# Altium integrated library TI Digital Signal Processor 32-Bit.IntLib: 121 symbols (part 13 of 13)
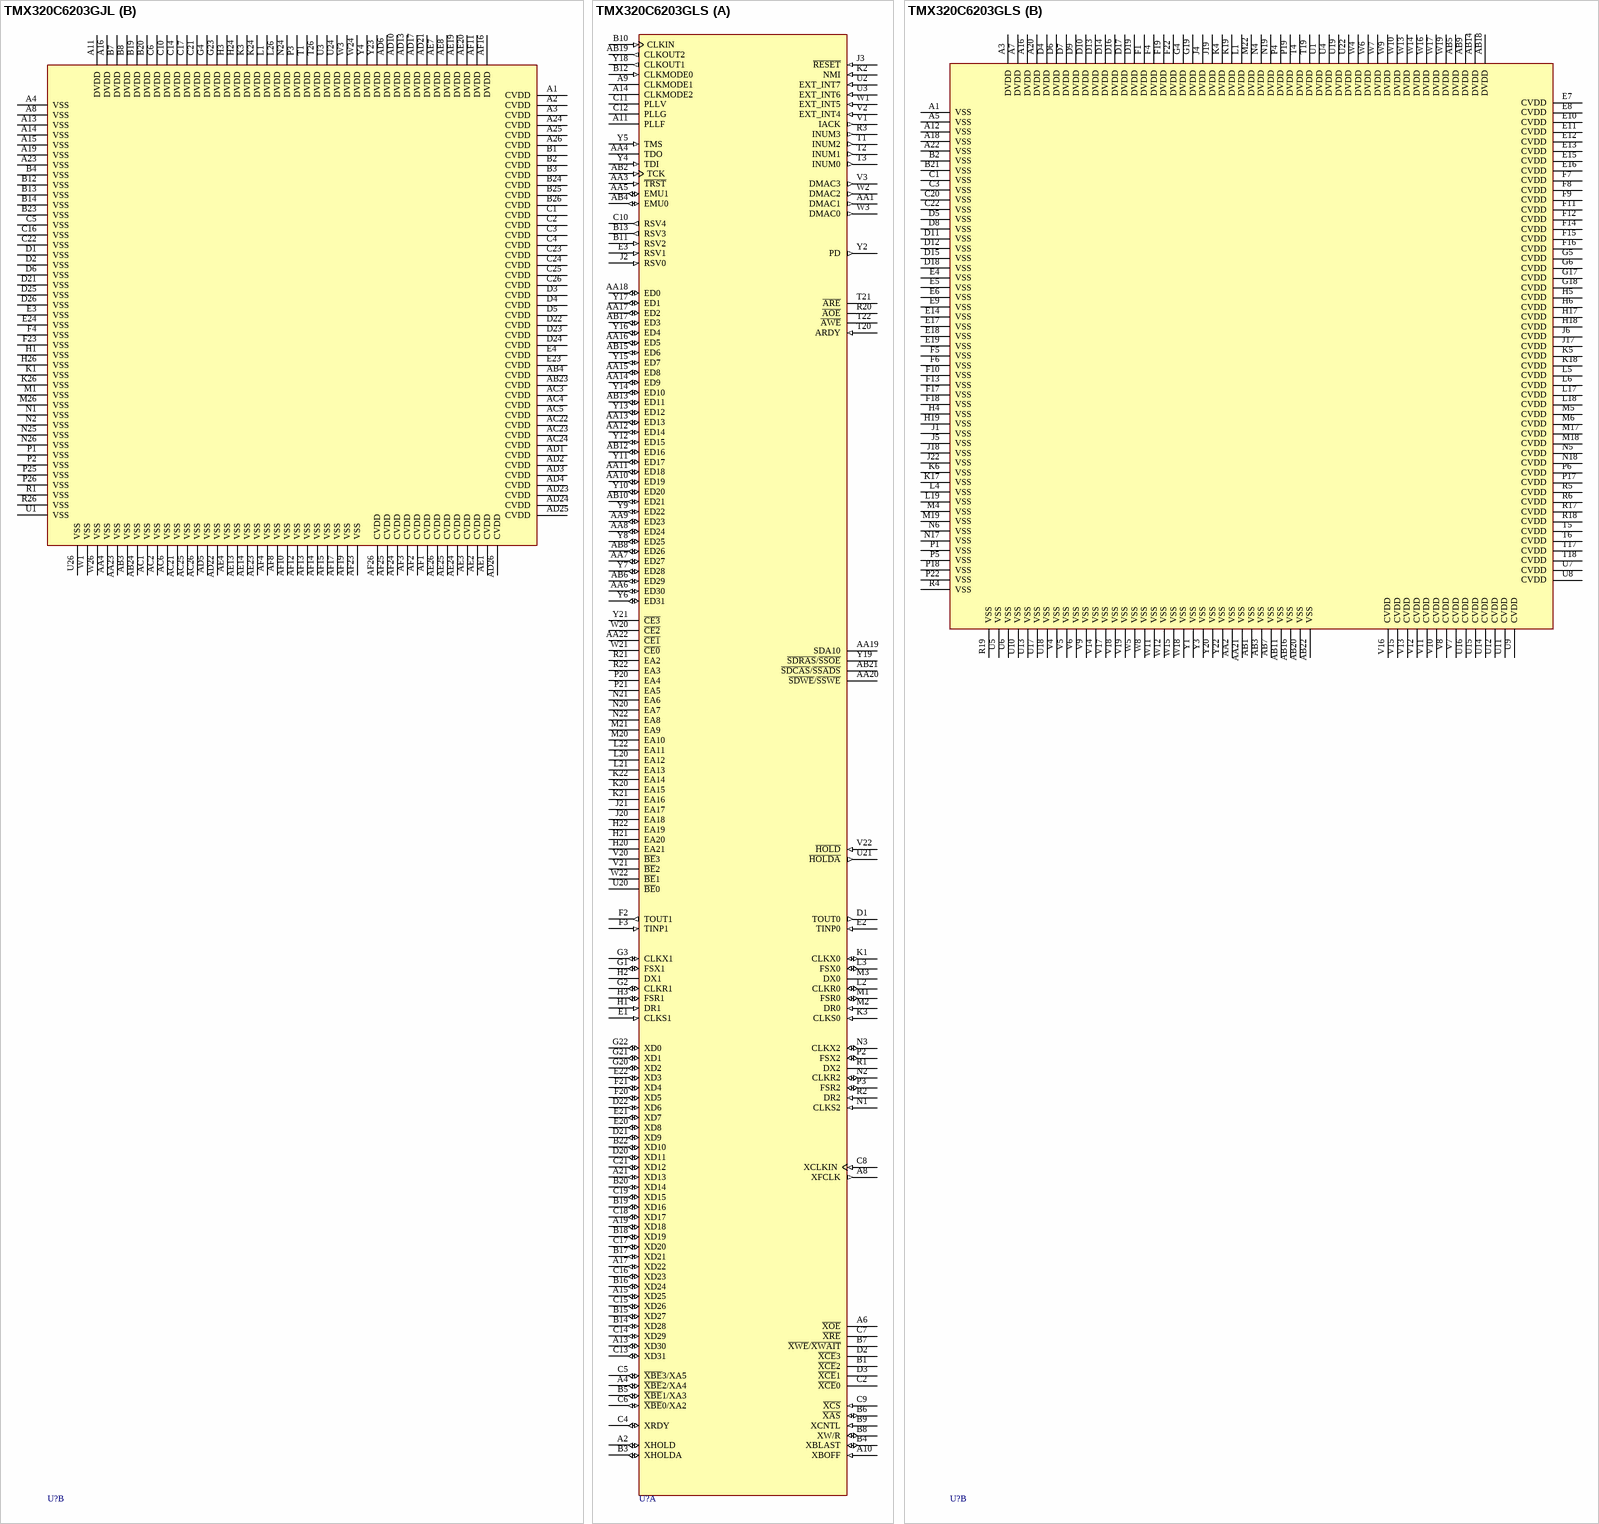
[diagram p142: symbols TMX320C6203GJL to TMX320C6203GLS]

## TMX320C6203GLS
designator U?
Fixed-Point, 1.5/3.3V, 2400 MIPS, Multichannel/Multifunction DSP; Note: PLLV, PLLG and PLLF are not part of external voltage supply or ground.; Published: 25-Jan-2001; LatestRevisionDate: 13-Apr-2006; LatestRevisionNote: IPC-7351 Footprint Added.; DatasheetVersion: Mar-2000; PackageVersion: Apr-2000; PackageReference: GLS384; Publisher: Altium Limited; PackageDescription: 384-Ball Ball Grid Array 0.8 mm Pitch; ComponentLink1Description: Manufacturer Link; ComponentLink1URL: http://www.ti.com/
footprint GLS384 (BGA, 384-Leads, Body 18x18mm, Pitch 0.8mm)
3D model TMX320C6203-GLS384 (384-Ball Ball Grid Array 0.8 mm Pitch)
part A pins: A2 XHOLD (io), A4 ~{XBE}2/XA4 (io), A6 ~{XOE} (hiz), A8 XFCLK (out), A9 CLKMODE1, A10 XBOFF (in), A11 PLLF, A13 XD30 (io), A14 CLKMODE2, A15 XD25 (io), A17 XD22 (io), A19 XD18 (io), A21 XD13 (io), AA1 DMAC1 (out), AA3 ~{TRST} (in), AA4 TDO (hiz), AA5 EMU1 (io), AA6 ED30 (io), AA7 ED27 (io), AA8 ED24 (io), AA9 ED23 (io), AA10 ED19 (io), AA11 ED18 (io), AA12 ED14 (io), AA13 ED13 (io), AA14 ED9 (io), AA15 ED8 (io), AA16 ED5 (io), AA17 ED2 (io), AA18 ED0 (io), AA19 SDA10 (hiz), AA20 ~{SDWE}/~{SSWE} (hiz), AA22 ~{CE1} (hiz), AB2 TCK (in), AB4 EMU0 (io), AB6 ED29 (io), AB8 ED26 (io), AB10 ED21 (io), AB12 ED16 (io), AB13 ED11 (io), AB15 ED6 (io), AB17 ED3 (io), AB19 CLKOUT2 (out), AB21 ~{SDCAS}/~{SSADS} (hiz), B1 ~{XCE}2 (hiz), B3 XHOLDA (io), B4 XBLAST (io), B5 ~{XBE}1/XA3 (io), B6 ~{XAS} (io), B7 ~{XWE}/~{XWAIT} (hiz), B8 XW/R (io), B9 XCNTL (in), B10 CLKIN (in), B11 RSV2 (in), B12 CLKMODE0 (in), B13 RSV3 (out), B14 XD28 (io), B15 XD27 (io), B16 XD24 (io), B17 XD21 (io), B18 XD19 (io), B19 XD16 (io), B20 XD14 (io), B22 XD10 (io), C2 ~{XCE}0 (hiz), C4 XRDY (io), C5 ~{XBE}3/XA5 (io), C6 ~{XBE}0/XA2 (io), C7 ~{XRE} (hiz), C8 XCLKIN (in), C9 ~{XCS} (in), C10 RSV4 (out), C11 PLLV (power), C12 PLLG (power), C13 XD31 (io), C14 XD29 (io), C15 XD26 (io), C16 XD23 (io), C17 XD20 (io), C18 XD17 (io), C19 XD15 (io), C21 XD12 (io), D1 TOUT0 (out), D2 ~{XCE}3 (hiz), D3 ~{XCE}1 (hiz), D20 XD11 (io), D21 XD9 (io), D22 XD6 (io), E1 CLKS1 (in), E2 TINP0 (in), E3 RSV1 (in), E20 XD8 (io), E21 XD7 (io), E22 XD3 (io), F2 TOUT1 (out), F3 TINP1 (in), F20 XD5 (io), F21 XD4 (io), G1 FSX1 (io), G2 CLKR1 (io), G3 CLKX1 (io), G20 XD2 (io), G21 XD1 (io), G22 XD0 (io), H1 DR1 (in), H2 DX1 (hiz), H3 FSR1 (io), H20 EA21 (hiz), H21 EA20 (hiz), H22 EA19 (hiz), J2 RSV0 (in), J3 ~{RESET} (in), J20 EA18 (hiz), J21 EA17 (hiz), K1 CLKX0 (io), K2 NMI (in), K3 CLKS0 (in), K20 EA15 (hiz), K21 EA16 (hiz), K22 EA14 (hiz), L2 CLKR0 (io), L3 FSX0 (io), L20 EA12 (hiz), L21 EA13 (hiz), L22 EA11 (hiz), M1 FSR0 (io), M2 DR0 (in), M3 DX0 (hiz), M20 EA10 (hiz), M21 EA9 (hiz), N1 CLKS2 (in), N2 CLKR2 (io), N3 CLKX2 (io), N20 EA7 (hiz), N21 EA6 (hiz), N22 EA8 (hiz), P2 FSX2 (io), P3 FSR2 (io), P20 EA4 (hiz), P21 EA5 (hiz), R1 DX2 (hiz), R2 DR2 (in), R3 INUM3 (out), R20 ~{AOE} (hiz), R21 EA2 (hiz), R22 EA3 (hiz), T1 INUM2 (out), T2 INUM1 (out), T3 INUM0 (out), T20 ARDY (in), T21 ~{ARE} (hiz), T22 ~{AWE} (hiz), U2 EXT_INT7 (in), U3 EXT_INT6 (in), U20 ~{BE}0 (hiz), U21 ~{HOLDA} (out), V1 IACK (out), V2 EXT_INT4 (in), V3 DMAC3 (out), V20 ~{BE}3 (hiz), V21 ~{BE}2 (hiz), V22 ~{HOLD} (in), W1 EXT_INT5 (in), W2 DMAC2 (out), W3 DMAC0 (out), W20 ~{CE2} (hiz), W21 ~{CE0} (hiz), W22 ~{BE}1 (hiz), Y2 PD (out), Y4 TDI (in), Y5 TMS (in), Y6 ED31 (io), Y7 ED28 (io), Y8 ED25 (io), Y9 ED22 (io), Y10 ED20 (io), Y11 ED17 (io), Y12 ED15 (io), Y13 ED12 (io), Y14 ED10 (io), Y15 ED7 (io), Y16 ED4 (io), Y17 ED1 (io), Y18 CLKOUT1 (out), Y19 ~{SDRAS}/~{SSOE} (hiz), Y21 ~{CE3} (hiz)
part B pins: A1 VSS (power), A3 DVDD (power), A5 VSS (power), A7 DVDD (power), A12 VSS (power), A16 DVDD (power), A18 VSS (power), A20 DVDD (power), A22 VSS (power), AA2 VSS (power), AA21 VSS (power), AB1 VSS (power), AB3 VSS (power), AB5 DVDD (power), AB7 VSS (power), AB9 DVDD (power), AB11 VSS (power), AB14 DVDD (power), AB16 VSS (power), AB18 DVDD (power), AB20 VSS (power), AB22 VSS (power), B2 VSS (power), B21 VSS (power), C1 VSS (power), C3 VSS (power), C20 VSS (power), C22 VSS (power), D4 DVDD (power), D5 VSS (power), D6 DVDD (power), D7 DVDD (power), D8 VSS (power), D9 DVDD (power), D10 DVDD (power), D11 VSS (power), D12 VSS (power), D13 DVDD (power), D14 DVDD (power), D15 VSS (power), D16 DVDD (power), D17 DVDD (power), D18 VSS (power), D19 DVDD (power), E4 VSS (power), E5 VSS (power), E6 VSS (power), E7 CVDD (power), E8 CVDD (power), E9 VSS (power), E10 CVDD (power), E11 CVDD (power), E12 CVDD (power), E13 CVDD (power), E14 VSS (power), E15 CVDD (power), E16 CVDD (power), E17 VSS (power), E18 VSS (power), E19 VSS (power), F1 DVDD (power), F4 DVDD (power), F5 VSS (power), F6 VSS (power), F7 CVDD (power), F8 CVDD (power), F9 CVDD (power), F10 VSS (power), F11 CVDD (power), F12 CVDD (power), F13 VSS (power), F14 CVDD (power), F15 CVDD (power), F16 CVDD (power), F17 VSS (power), F18 VSS (power), F19 DVDD (power), F22 DVDD (power), G4 DVDD (power), G5 CVDD (power), G6 CVDD (power), G17 CVDD (power), G18 CVDD (power), G19 DVDD (power), H4 VSS (power), H5 CVDD (power), H6 CVDD (power), H17 CVDD (power), H18 CVDD (power), H19 VSS (power), J1 VSS (power), J4 DVDD (power), J5 VSS (power), J6 CVDD (power), J17 CVDD (power), J18 VSS (power), J19 DVDD (power), J22 VSS (power), K4 DVDD (power), K5 CVDD (power), K6 VSS (power), K17 VSS (power), K18 CVDD (power), K19 DVDD (power), L1 DVDD (power), L4 VSS (power), L5 CVDD (power), L6 CVDD (power), L17 CVDD (power), L18 CVDD (power), L19 VSS (power), M4 VSS (power), M5 CVDD (power), M6 CVDD (power), M17 CVDD (power), M18 CVDD (power), M19 VSS (power), M22 DVDD (power), N4 DVDD (power), N5 CVDD (power), N6 VSS (power), N17 VSS (power), N18 CVDD (power), N19 DVDD (power), P1 VSS (power), P4 DVDD (power), P5 VSS (power), P6 CVDD (power), P17 CVDD (power), P18 VSS (power), P19 DVDD (power), P22 VSS (power), R4 VSS (power), R5 CVDD (power), R6 CVDD (power), R17 CVDD (power), R18 CVDD (power), R19 VSS (power), T4 DVDD (power), T5 CVDD (power), T6 CVDD (power), T17 CVDD (power), T18 CVDD (power), T19 DVDD (power), U1 DVDD (power), U4 DVDD (power), U5 VSS (power), U6 VSS (power), U7 CVDD (power), U8 CVDD (power), U9 CVDD (power), U10 VSS (power), U11 CVDD (power), U12 CVDD (power), U13 VSS (power), U14 CVDD (power), U15 CVDD (power), U16 CVDD (power), U17 VSS (power), U18 VSS (power), U19 DVDD (power), U22 DVDD (power), V4 VSS (power), V5 VSS (power), V6 VSS (power), V7 CVDD (power), V8 CVDD (power), V9 VSS (power), V10 CVDD (power), V11 CVDD (power), V12 CVDD (power), V13 CVDD (power), V14 VSS (power), V15 CVDD (power), V16 CVDD (power), V17 VSS (power), V18 VSS (power), V19 VSS (power), W4 DVDD (power), W5 VSS (power), W6 DVDD (power), W7 DVDD (power), W8 VSS (power), W9 DVDD (power), W10 DVDD (power), W11 VSS (power), W12 VSS (power), W13 DVDD (power), W14 DVDD (power), W15 VSS (power), W16 DVDD (power), W17 DVDD (power), W18 VSS (power), W19 DVDD (power), Y1 VSS (power), Y3 VSS (power), Y20 VSS (power), Y22 VSS (power)

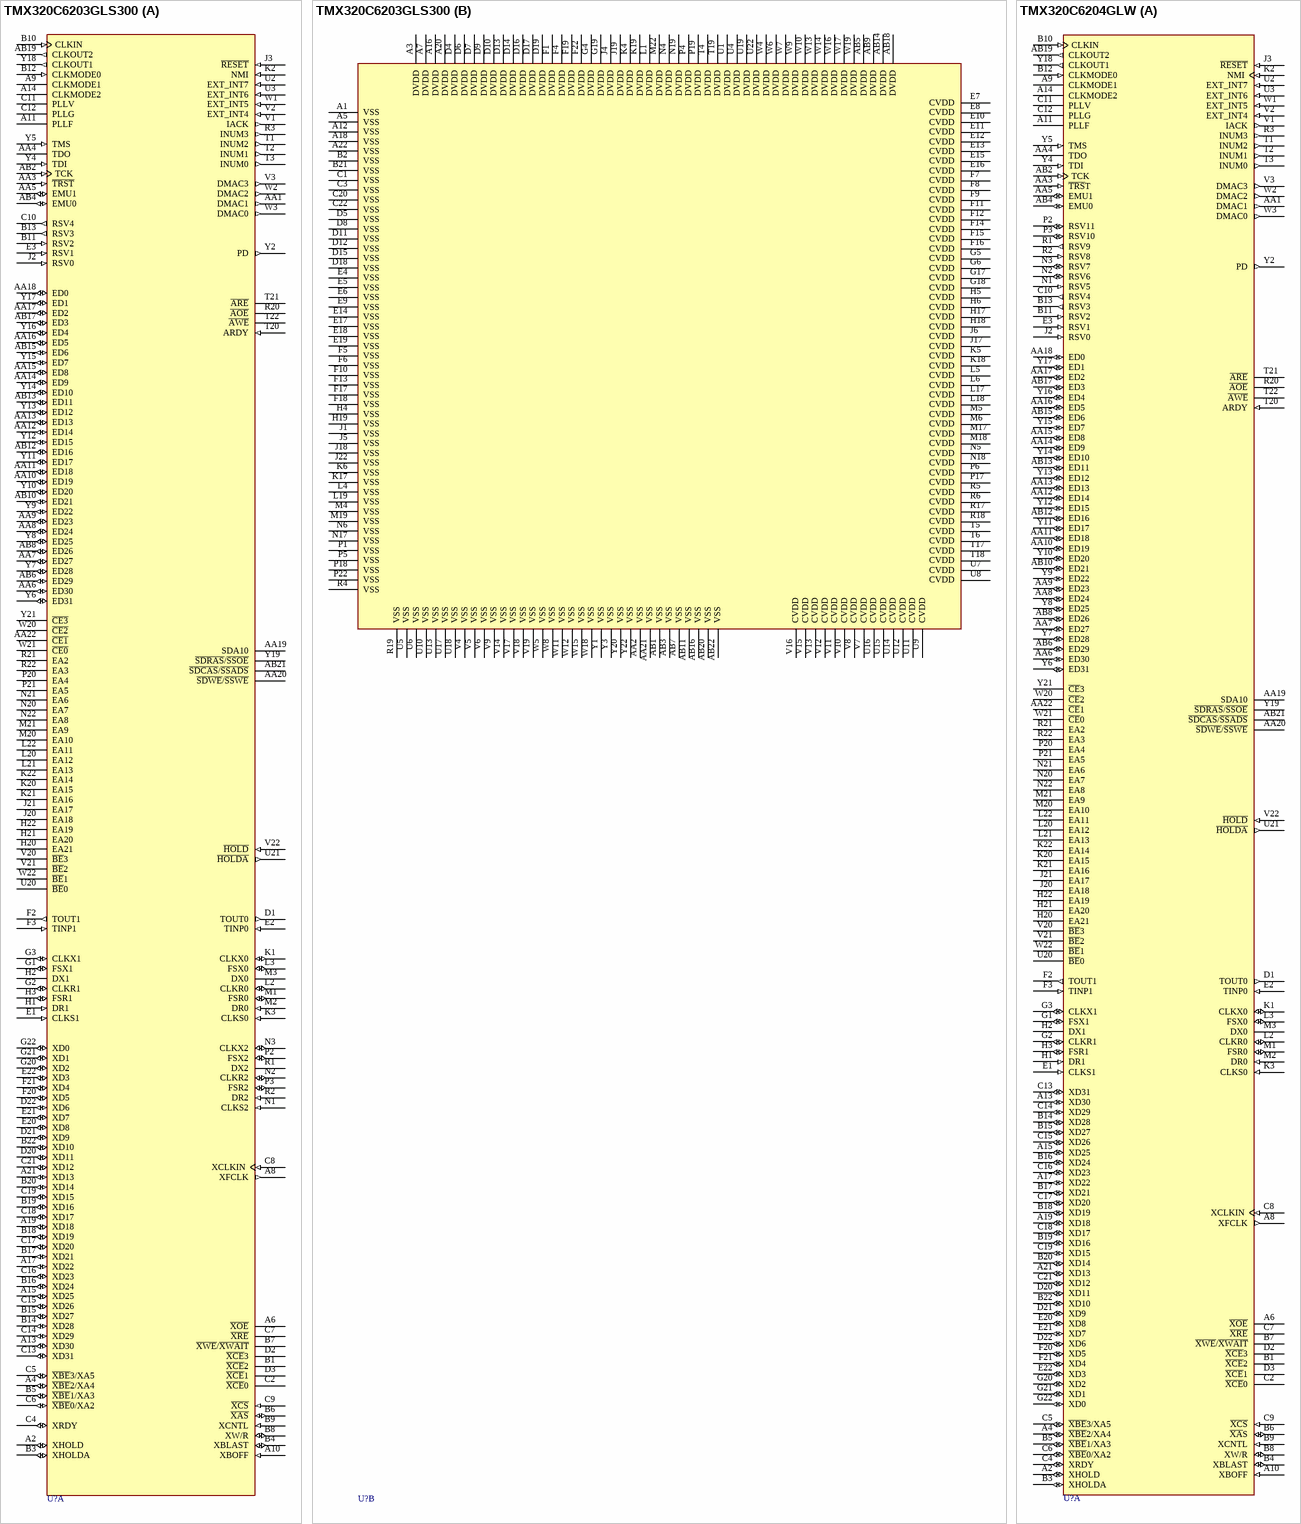
[diagram p127: symbols TMX320C6203GLS300 to TMX320C6204GLW]

## TMX320C6203GLS300
designator U?
Fixed-Point, 1.5/3.3V, 2400 MIPS, Multichannel/Multifunction DSP; Note: PLLV, PLLG and PLLF are not part of external voltage supply or ground.; Published: 25-Jan-2001; LatestRevisionDate: 13-Apr-2006; LatestRevisionNote: IPC-7351 Footprint Added.; DatasheetVersion: Mar-2000; PackageVersion: Apr-2000; PackageReference: GLS384; Publisher: Altium Limited; PackageDescription: 384-Ball Ball Grid Array 0.8 mm Pitch; ComponentLink1Description: Manufacturer Link; ComponentLink1URL: http://www.ti.com/
footprint GLS384 (BGA, 384-Leads, Body 18x18mm, Pitch 0.8mm)
3D model TMX320C6203-GLS384 (384-Ball Ball Grid Array 0.8 mm Pitch)
part A pins: A2 XHOLD (io), A4 ~{XBE}2/XA4 (io), A6 ~{XOE} (hiz), A8 XFCLK (out), A9 CLKMODE1, A10 XBOFF (in), A11 PLLF, A13 XD30 (io), A14 CLKMODE2, A15 XD25 (io), A17 XD22 (io), A19 XD18 (io), A21 XD13 (io), AA1 DMAC1 (out), AA3 ~{TRST} (in), AA4 TDO (hiz), AA5 EMU1 (io), AA6 ED30 (io), AA7 ED27 (io), AA8 ED24 (io), AA9 ED23 (io), AA10 ED19 (io), AA11 ED18 (io), AA12 ED14 (io), AA13 ED13 (io), AA14 ED9 (io), AA15 ED8 (io), AA16 ED5 (io), AA17 ED2 (io), AA18 ED0 (io), AA19 SDA10 (hiz), AA20 ~{SDWE}/~{SSWE} (hiz), AA22 ~{CE1} (hiz), AB2 TCK (in), AB4 EMU0 (io), AB6 ED29 (io), AB8 ED26 (io), AB10 ED21 (io), AB12 ED16 (io), AB13 ED11 (io), AB15 ED6 (io), AB17 ED3 (io), AB19 CLKOUT2 (out), AB21 ~{SDCAS}/~{SSADS} (hiz), B1 ~{XCE}2 (hiz), B3 XHOLDA (io), B4 XBLAST (io), B5 ~{XBE}1/XA3 (io), B6 ~{XAS} (io), B7 ~{XWE}/~{XWAIT} (hiz), B8 XW/R (io), B9 XCNTL (in), B10 CLKIN (in), B11 RSV2 (in), B12 CLKMODE0 (in), B13 RSV3 (out), B14 XD28 (io), B15 XD27 (io), B16 XD24 (io), B17 XD21 (io), B18 XD19 (io), B19 XD16 (io), B20 XD14 (io), B22 XD10 (io), C2 ~{XCE}0 (hiz), C4 XRDY (io), C5 ~{XBE}3/XA5 (io), C6 ~{XBE}0/XA2 (io), C7 ~{XRE} (hiz), C8 XCLKIN (in), C9 ~{XCS} (in), C10 RSV4 (out), C11 PLLV (power), C12 PLLG (power), C13 XD31 (io), C14 XD29 (io), C15 XD26 (io), C16 XD23 (io), C17 XD20 (io), C18 XD17 (io), C19 XD15 (io), C21 XD12 (io), D1 TOUT0 (out), D2 ~{XCE}3 (hiz), D3 ~{XCE}1 (hiz), D20 XD11 (io), D21 XD9 (io), D22 XD6 (io), E1 CLKS1 (in), E2 TINP0 (in), E3 RSV1 (in), E20 XD8 (io), E21 XD7 (io), E22 XD3 (io), F2 TOUT1 (out), F3 TINP1 (in), F20 XD5 (io), F21 XD4 (io), G1 FSX1 (io), G2 CLKR1 (io), G3 CLKX1 (io), G20 XD2 (io), G21 XD1 (io), G22 XD0 (io), H1 DR1 (in), H2 DX1 (hiz), H3 FSR1 (io), H20 EA21 (hiz), H21 EA20 (hiz), H22 EA19 (hiz), J2 RSV0 (in), J3 ~{RESET} (in), J20 EA18 (hiz), J21 EA17 (hiz), K1 CLKX0 (io), K2 NMI (in), K3 CLKS0 (in), K20 EA15 (hiz), K21 EA16 (hiz), K22 EA14 (hiz), L2 CLKR0 (io), L3 FSX0 (io), L20 EA12 (hiz), L21 EA13 (hiz), L22 EA11 (hiz), M1 FSR0 (io), M2 DR0 (in), M3 DX0 (hiz), M20 EA10 (hiz), M21 EA9 (hiz), N1 CLKS2 (in), N2 CLKR2 (io), N3 CLKX2 (io), N20 EA7 (hiz), N21 EA6 (hiz), N22 EA8 (hiz), P2 FSX2 (io), P3 FSR2 (io), P20 EA4 (hiz), P21 EA5 (hiz), R1 DX2 (hiz), R2 DR2 (in), R3 INUM3 (out), R20 ~{AOE} (hiz), R21 EA2 (hiz), R22 EA3 (hiz), T1 INUM2 (out), T2 INUM1 (out), T3 INUM0 (out), T20 ARDY (in), T21 ~{ARE} (hiz), T22 ~{AWE} (hiz), U2 EXT_INT7 (in), U3 EXT_INT6 (in), U20 ~{BE}0 (hiz), U21 ~{HOLDA} (out), V1 IACK (out), V2 EXT_INT4 (in), V3 DMAC3 (out), V20 ~{BE}3 (hiz), V21 ~{BE}2 (hiz), V22 ~{HOLD} (in), W1 EXT_INT5 (in), W2 DMAC2 (out), W3 DMAC0 (out), W20 ~{CE2} (hiz), W21 ~{CE0} (hiz), W22 ~{BE}1 (hiz), Y2 PD (out), Y4 TDI (in), Y5 TMS (in), Y6 ED31 (io), Y7 ED28 (io), Y8 ED25 (io), Y9 ED22 (io), Y10 ED20 (io), Y11 ED17 (io), Y12 ED15 (io), Y13 ED12 (io), Y14 ED10 (io), Y15 ED7 (io), Y16 ED4 (io), Y17 ED1 (io), Y18 CLKOUT1 (out), Y19 ~{SDRAS}/~{SSOE} (hiz), Y21 ~{CE3} (hiz)
part B pins: A1 VSS (power), A3 DVDD (power), A5 VSS (power), A7 DVDD (power), A12 VSS (power), A16 DVDD (power), A18 VSS (power), A20 DVDD (power), A22 VSS (power), AA2 VSS (power), AA21 VSS (power), AB1 VSS (power), AB3 VSS (power), AB5 DVDD (power), AB7 VSS (power), AB9 DVDD (power), AB11 VSS (power), AB14 DVDD (power), AB16 VSS (power), AB18 DVDD (power), AB20 VSS (power), AB22 VSS (power), B2 VSS (power), B21 VSS (power), C1 VSS (power), C3 VSS (power), C20 VSS (power), C22 VSS (power), D4 DVDD (power), D5 VSS (power), D6 DVDD (power), D7 DVDD (power), D8 VSS (power), D9 DVDD (power), D10 DVDD (power), D11 VSS (power), D12 VSS (power), D13 DVDD (power), D14 DVDD (power), D15 VSS (power), D16 DVDD (power), D17 DVDD (power), D18 VSS (power), D19 DVDD (power), E4 VSS (power), E5 VSS (power), E6 VSS (power), E7 CVDD (power), E8 CVDD (power), E9 VSS (power), E10 CVDD (power), E11 CVDD (power), E12 CVDD (power), E13 CVDD (power), E14 VSS (power), E15 CVDD (power), E16 CVDD (power), E17 VSS (power), E18 VSS (power), E19 VSS (power), F1 DVDD (power), F4 DVDD (power), F5 VSS (power), F6 VSS (power), F7 CVDD (power), F8 CVDD (power), F9 CVDD (power), F10 VSS (power), F11 CVDD (power), F12 CVDD (power), F13 VSS (power), F14 CVDD (power), F15 CVDD (power), F16 CVDD (power), F17 VSS (power), F18 VSS (power), F19 DVDD (power), F22 DVDD (power), G4 DVDD (power), G5 CVDD (power), G6 CVDD (power), G17 CVDD (power), G18 CVDD (power), G19 DVDD (power), H4 VSS (power), H5 CVDD (power), H6 CVDD (power), H17 CVDD (power), H18 CVDD (power), H19 VSS (power), J1 VSS (power), J4 DVDD (power), J5 VSS (power), J6 CVDD (power), J17 CVDD (power), J18 VSS (power), J19 DVDD (power), J22 VSS (power), K4 DVDD (power), K5 CVDD (power), K6 VSS (power), K17 VSS (power), K18 CVDD (power), K19 DVDD (power), L1 DVDD (power), L4 VSS (power), L5 CVDD (power), L6 CVDD (power), L17 CVDD (power), L18 CVDD (power), L19 VSS (power), M4 VSS (power), M5 CVDD (power), M6 CVDD (power), M17 CVDD (power), M18 CVDD (power), M19 VSS (power), M22 DVDD (power), N4 DVDD (power), N5 CVDD (power), N6 VSS (power), N17 VSS (power), N18 CVDD (power), N19 DVDD (power), P1 VSS (power), P4 DVDD (power), P5 VSS (power), P6 CVDD (power), P17 CVDD (power), P18 VSS (power), P19 DVDD (power), P22 VSS (power), R4 VSS (power), R5 CVDD (power), R6 CVDD (power), R17 CVDD (power), R18 CVDD (power), R19 VSS (power), T4 DVDD (power), T5 CVDD (power), T6 CVDD (power), T17 CVDD (power), T18 CVDD (power), T19 DVDD (power), U1 DVDD (power), U4 DVDD (power), U5 VSS (power), U6 VSS (power), U7 CVDD (power), U8 CVDD (power), U9 CVDD (power), U10 VSS (power), U11 CVDD (power), U12 CVDD (power), U13 VSS (power), U14 CVDD (power), U15 CVDD (power), U16 CVDD (power), U17 VSS (power), U18 VSS (power), U19 DVDD (power), U22 DVDD (power), V4 VSS (power), V5 VSS (power), V6 VSS (power), V7 CVDD (power), V8 CVDD (power), V9 VSS (power), V10 CVDD (power), V11 CVDD (power), V12 CVDD (power), V13 CVDD (power), V14 VSS (power), V15 CVDD (power), V16 CVDD (power), V17 VSS (power), V18 VSS (power), V19 VSS (power), W4 DVDD (power), W5 VSS (power), W6 DVDD (power), W7 DVDD (power), W8 VSS (power), W9 DVDD (power), W10 DVDD (power), W11 VSS (power), W12 VSS (power), W13 DVDD (power), W14 DVDD (power), W15 VSS (power), W16 DVDD (power), W17 DVDD (power), W18 VSS (power), W19 DVDD (power), Y1 VSS (power), Y3 VSS (power), Y20 VSS (power), Y22 VSS (power)

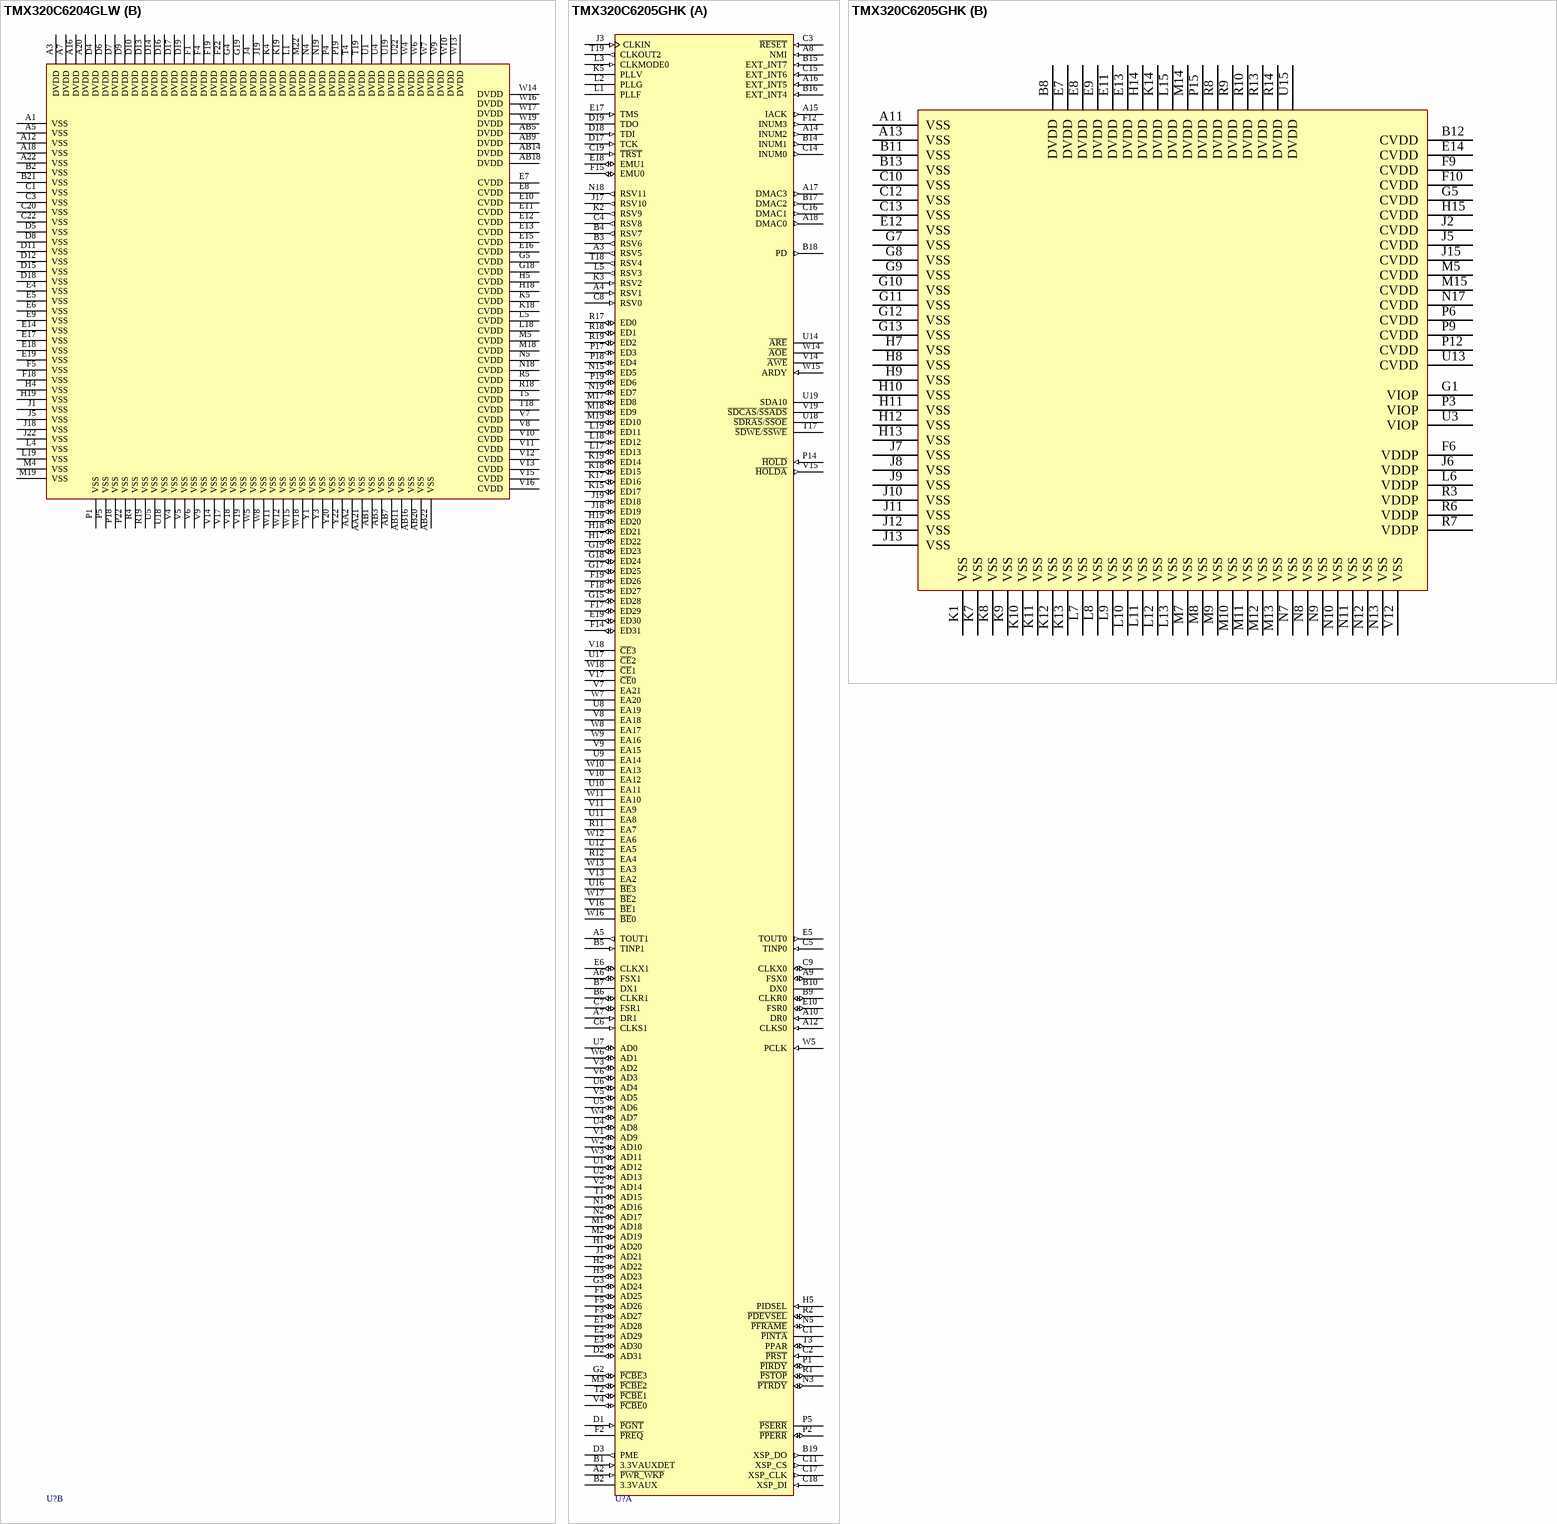
[diagram p128: symbols TMX320C6204GLW to TMX320C6205GHK]

## TMX320C6204GLW
designator U?
Fixed-Point, 1.5/3.3V, 1600 MIPS, Multichannel/Multifunction DSP; Note: PLLV, PLLG and PLLF are not part of external voltage supply or ground.; Published: 25-Jan-2001; LatestRevisionDate: 13-Apr-2006; LatestRevisionNote: IPC-7351 Footprint Added.; DatasheetVersion: Mar-2000; PackageVersion: Apr-2000; PackageReference: GLW340; Publisher: Altium Limited; PackageDescription: 340-Ball Ball Grid Array 0.8 mm Pitch; ComponentLink1Description: Manufacturer Link; ComponentLink1URL: http://www.ti.com/
footprint GLW340 (BGA, 340-Leads, Body 18x18mm, Pitch 0.8mm)
3D model TMX320C6204-GLW340 (340-Ball Ball Grid Array 0.8 mm Pitch)
part A pins: A2 XHOLD (io), A4 ~{XBE}2/XA4 (io), A6 ~{XOE} (hiz), A8 XFCLK (out), A9 CLKMODE1, A10 XBOFF (in), A11 PLLF, A13 XD30 (io), A14 CLKMODE2, A15 XD25 (io), A17 XD22 (io), A19 XD18 (io), A21 XD13 (io), AA1 DMAC1 (out), AA3 ~{TRS}T (in), AA4 TDO (hiz), AA5 EMU1 (io), AA6 ED30 (io), AA7 ED27 (io), AA8 ED24 (io), AA9 ED23 (io), AA10 ED19 (io), AA11 ED18 (io), AA12 ED14 (io), AA13 ED13 (io), AA14 ED9 (io), AA15 ED8 (io), AA16 ED5 (io), AA17 ED2 (io), AA18 ED0 (io), AA19 SDA10 (hiz), AA20 ~{SDWE}/~{SSWE} (hiz), AA22 ~{CE}1 (hiz), AB2 TCK (in), AB4 EMU0 (io), AB6 ED29 (io), AB8 ED26 (io), AB10 ED21 (io), AB12 ED16 (io), AB13 ED11 (io), AB15 ED6 (io), AB17 ED3 (io), AB19 CLKOUT2 (out), AB21 ~{SDCAS}/~{SSADS} (hiz), B1 ~{XCE}2 (hiz), B3 XHOLDA (io), B4 XBLAST (io), B5 ~{XBE}1/XA3 (io), B6 ~{XA}S (io), B7 ~{XWE}/~{XWAIT} (hiz), B8 XW/R (io), B9 XCNTL (in), B10 CLKIN (in), B11 RSV2 (in), B12 CLKMODE0 (in), B13 RSV3 (out), B14 XD28 (io), B15 XD27 (io), B16 XD24 (io), B17 XD21 (io), B18 XD19 (io), B19 XD16 (io), B20 XD14 (io), B22 XD10 (io), C2 ~{XCE}0 (hiz), C4 XRDY (io), C5 ~{XBE}3/XA5 (io), C6 ~{XBE}0/XA2 (io), C7 ~{XRE} (hiz), C8 XCLKIN (in), C9 ~{XCS} (in), C10 RSV4 (out), C11 PLLV (power), C12 PLLG (power), C13 XD31 (io), C14 XD29 (io), C15 XD26 (io), C16 XD23 (io), C17 XD20 (io), C18 XD17 (io), C19 XD15 (io), C21 XD12 (io), D1 TOUT0 (out), D2 ~{XCE}3 (hiz), D3 ~{XCE}1 (hiz), D20 XD11 (io), D21 XD9 (io), D22 XD6 (io), E1 CLKS1 (in), E2 TINP0 (in), E3 RSV1 (in), E20 XD8 (io), E21 XD7 (io), E22 XD3 (io), F2 TOUT1 (out), F3 TINP1 (in), F20 XD5 (io), F21 XD4 (io), G1 FSX1 (io), G2 CLKR1 (io), G3 CLKX1 (io), G20 XD2 (io), G21 XD1 (io), G22 XD0 (io), H1 DR1 (in), H2 DX1 (hiz), H3 FSR1 (io), H20 EA21 (hiz), H21 EA20 (hiz), H22 EA19 (hiz), J2 RSV0 (in), J3 ~{RESET} (in), J20 EA18 (hiz), J21 EA17 (hiz), K1 CLKX0 (io), K2 NMI (in), K3 CLKS0 (in), K20 EA15 (hiz), K21 EA16 (hiz), K22 EA14 (hiz), L2 CLKR0 (io), L3 FSX0 (io), L20 EA12 (hiz), L21 EA13 (hiz), L22 EA11 (hiz), M1 FSR0 (io), M2 DR0 (in), M3 DX0 (hiz), M20 EA10 (hiz), M21 EA9 (hiz), N1 RSV5 (in), N2 RSV6 (io), N3 RSV7 (io), N20 EA7 (hiz), N21 EA6 (hiz), N22 EA8 (hiz), P2 RSV11 (io), P3 RSV10 (io), P20 EA4 (hiz), P21 EA5 (hiz), R1 RSV9 (out), R2 RSV8 (in), R3 INUM3 (out), R20 ~{AOE} (hiz), R21 EA2 (hiz), R22 EA3 (hiz), T1 INUM2 (out), T2 INUM1 (out), T3 INUM0 (out), T20 ARDY (in), T21 ~{ARE} (hiz), T22 ~{AWE} (hiz), U2 EXT_INT7 (in), U3 EXT_INT6 (in), U20 ~{BE}0 (hiz), U21 ~{HOLDA} (out), V1 IACK (out), V2 EXT_INT4 (in), V3 DMAC3 (out), V20 ~{BE}3 (hiz), V21 ~{BE}2 (hiz), V22 ~{HOLD} (in), W1 EXT_INT5 (in), W2 DMAC2 (out), W3 DMAC0 (out), W20 ~{CE}2 (hiz), W21 ~{CE}0 (hiz), W22 ~{BE}1 (hiz), Y2 PD (out), Y4 TDI (in), Y5 TMS (in), Y6 ED31 (io), Y7 ED28 (io), Y8 ED25 (io), Y9 ED22 (io), Y10 ED20 (io), Y11 ED17 (io), Y12 ED15 (io), Y13 ED12 (io), Y14 ED10 (io), Y15 ED7 (io), Y16 ED4 (io), Y17 ED1 (io), Y18 CLKOUT1 (out), Y19 ~{SDRAS}/~{SSOE} (hiz), Y21 ~{CE}3 (hiz)
part B pins: A1 VSS (power), A3 DVDD (power), A5 VSS (power), A7 DVDD (power), A12 VSS (power), A16 DVDD (power), A18 VSS (power), A20 DVDD (power), A22 VSS (power), AA2 VSS (power), AA21 VSS (power), AB1 VSS (power), AB3 VSS (power), AB5 DVDD (power), AB7 VSS (power), AB9 DVDD (power), AB11 VSS (power), AB14 DVDD (power), AB16 VSS (power), AB18 DVDD (power), AB20 VSS (power), AB22 VSS (power), B2 VSS (power), B21 VSS (power), C1 VSS (power), C3 VSS (power), C20 VSS (power), C22 VSS (power), D4 DVDD (power), D5 VSS (power), D6 DVDD (power), D7 DVDD (power), D8 VSS (power), D9 DVDD (power), D10 DVDD (power), D11 VSS (power), D12 VSS (power), D13 DVDD (power), D14 DVDD (power), D15 VSS (power), D16 DVDD (power), D17 DVDD (power), D18 VSS (power), D19 DVDD (power), E4 VSS (power), E5 VSS (power), E6 VSS (power), E7 CVDD (power), E8 CVDD (power), E9 VSS (power), E10 CVDD (power), E11 CVDD (power), E12 CVDD (power), E13 CVDD (power), E14 VSS (power), E15 CVDD (power), E16 CVDD (power), E17 VSS (power), E18 VSS (power), E19 VSS (power), F1 DVDD (power), F4 DVDD (power), F5 VSS (power), F18 VSS (power), F19 DVDD (power), F22 DVDD (power), G4 DVDD (power), G5 CVDD (power), G18 CVDD (power), G19 DVDD (power), H4 VSS (power), H5 CVDD (power), H18 CVDD (power), H19 VSS (power), J1 VSS (power), J4 DVDD (power), J5 VSS (power), J18 VSS (power), J19 DVDD (power), J22 VSS (power), K4 DVDD (power), K5 CVDD (power), K18 CVDD (power), K19 DVDD (power), L1 DVDD (power), L4 VSS (power), L5 CVDD (power), L18 CVDD (power), L19 VSS (power), M4 VSS (power), M5 CVDD (power), M18 CVDD (power), M19 VSS (power), M22 DVDD (power), N4 DVDD (power), N5 CVDD (power), N18 CVDD (power), N19 DVDD (power), P1 VSS (power), P4 DVDD (power), P5 VSS (power), P18 VSS (power), P19 DVDD (power), P22 VSS (power), R4 VSS (power), R5 CVDD (power), R18 CVDD (power), R19 VSS (power), T4 DVDD (power), T5 CVDD (power), T18 CVDD (power), T19 DVDD (power), U1 DVDD (power), U4 DVDD (power), U5 VSS (power), U18 VSS (power), U19 DVDD (power), U22 DVDD (power), V4 VSS (power), V5 VSS (power), V6 VSS (power), V7 CVDD (power), V8 CVDD (power), V9 VSS (power), V10 CVDD (power), V11 CVDD (power), V12 CVDD (power), V13 CVDD (power), V14 VSS (power), V15 CVDD (power), V16 CVDD (power), V17 VSS (power), V18 VSS (power), V19 VSS (power), W4 DVDD (power), W5 VSS (power), W6 DVDD (power), W7 DVDD (power), W8 VSS (power), W9 DVDD (power), W10 DVDD (power), W11 VSS (power), W12 VSS (power), W13 DVDD (power), W14 DVDD (power), W15 VSS (power), W16 DVDD (power), W17 DVDD (power), W18 VSS (power), W19 DVDD (power), Y1 VSS (power), Y3 VSS (power), Y20 VSS (power), Y22 VSS (power)

## TMX320C6205GHK
designator U?
Fixed-Point, 1.5/3.3/5V, 1600 MIPS, Multichannel/Multifunction DSP; Note: PLLV, PLLG and PLLF are not part of external voltage supply or ground.; Published: 25-Jan-2001; LatestRevisionDate: 13-Apr-2006; LatestRevisionNote: IPC-7351 Footprint Added.; DatasheetVersion: Mar-2000; PackageVersion: Jan-2000; PackageReference: GHK288; Publisher: Altium Limited; PackageDescription: 288-Ball Ball Grid Array 0.8 mm Pitch; ComponentLink1Description: Manufacturer Link; ComponentLink1URL: http://www.ti.com/
footprint GHK288 (BGA, 288-Leads, Body 16x16mm, Pitch 0.8mm)
3D model TMX320C6205-GHK288 (288-Ball Ball Grid Array 0.8 mm Pitch)
part A pins: A2 ~{PWR}~{_WKP} (in), A3 RSV5 (out), A4 RSV1 (in), A5 TOUT1 (out), A6 FSX1 (io), A7 DR1 (in), A8 NMI (in), A9 FSX0 (io), A10 DR0 (in), A12 CLKS0 (in), A14 INUM2 (out), A15 IACK (out), A16 EXT_INT5 (in), A17 DMAC3 (out), A18 DMAC0 (out), B1 3.3VAUXDET (in), B2 3.3VAUX (power), B3 RSV6 (out), B4 RSV7 (out), B5 TINP1 (in), B6 CLKR1 (io), B7 DX1 (hiz), B9 CLKR0 (io), B10 DX0 (hiz), B14 INUM1 (out), B15 EXT_INT7 (in), B16 EXT_INT4 (in), B17 DMAC2 (out), B18 PD (out), B19 XSP_DO (out), C1 ~{PINTA} (hiz), C2 ~{PRST} (in), C3 ~{RESET} (in), C4 RSV8 (out), C5 TINP0 (in), C6 CLKS1 (in), C7 FSR1 (io), C8 RSV0 (in), C9 CLKX0 (io), C11 XSP_CS (out), C14 INUM0 (out), C15 EXT_INT6 (in), C16 DMAC1 (out), C17 XSP_CLK (out), C18 XSP_DI (in), C19 ~{TRST} (in), D1 ~{PGNT} (in), D2 AD31 (io), D3 PME (out), D17 TCK (in), D18 TDI (in), D19 TDO (hiz), E1 AD28 (io), E2 AD29 (io), E3 AD30 (io), E5 TOUT0 (out), E6 CLKX1 (io), E10 FSR0 (io), E17 TMS (in), E18 EMU1 (io), E19 ED30 (io), F1 AD25 (io), F2 ~{PREQ} (hiz), F3 AD27 (io), F5 AD26 (io), F12 INUM3 (out), F14 ED31 (io), F15 EMU0 (io), F17 ED29 (io), F18 ED27 (io), F19 ED26 (io), G2 ~{PCBE}3 (io), G3 AD24 (io), G15 ED28 (io), G17 ED25 (io), G18 ED24 (io), G19 ED23 (io), H1 AD20 (io), H2 AD22 (io), H3 AD23 (io), H5 PIDSEL (in), H17 ED22 (io), H18 ED21 (io), H19 ED20 (io), J1 AD21 (io), J3 CLKIN (in), J17 RSV10 (out), J18 ED19 (io), J19 ED18 (io), K2 RSV9 (out), K3 RSV2 (in), K5 PLLV (power), K15 ED17 (io), K17 ED16 (io), K18 ED15 (io), K19 ED14 (io), L1 PLLF, L2 PLLG (power), L3 CLKMODE0 (in), L5 RSV3 (out), L17 ED13 (io), L18 ED12 (io), L19 ED11 (io), M1 AD18 (io), M2 AD19 (io), M3 ~{PCBE}2 (io), M17 ED8 (io), M18 ED9 (io), M19 ED10 (io), N1 AD16 (io), N2 AD17 (io), N3 ~{PTRDY} (io), N5 ~{PFRAME} (io), N15 ED5 (io), N18 RSV11 (out), N19 ED7 (io), P1 ~{PIRDY} (io), P2 ~{PPERR} (io), P5 ~{PSERR} (hiz), P14 ~{HOLD} (in), P17 ED3 (io), P18 ED4 (io), P19 ED6 (io), R1 ~{PSTOP} (io), R2 ~{PDEVSEL} (io), R11 EA7 (hiz), R12 EA4 (hiz), R17 ED0 (io), R18 ED1 (io), R19 ED2 (io), T1 AD15 (io), T2 ~{PCBE}1 (io), T3 PPAR (io), T17 ~{SDWE}/~{SSWE} (hiz), T18 RSV4 (out), T19 CLKOUT2 (out), U1 AD12 (io), U2 AD13 (io), U4 AD8 (io), U5 AD6 (io), U6 AD4 (io), U7 AD0 (io), U8 EA19 (hiz), U9 EA14 (hiz), U10 EA11 (hiz), U11 EA8 (hiz), U12 EA5 (hiz), U14 ~{ARE} (hiz), U16 ~{BE}3 (hiz), U17 ~{CE}2 (hiz), U18 ~{SDRAS}/~{SSOE} (hiz), U19 SDA10 (hiz), V1 AD9 (io), V2 AD14 (io), V3 AD2 (io), V4 ~{PCBE}0 (io), V5 AD5 (io), V6 AD3 (io), V7 EA21 (hiz), V8 EA18 (hiz), V9 EA15 (hiz), V10 EA12 (hiz), V11 EA9 (hiz), V13 EA2 (hiz), V14 ~{AWE} (hiz), V15 ~{HOLDA} (out), V16 ~{BE}1 (hiz), V17 ~{CE}0 (hiz), V18 ~{CE}3 (hiz), V19 ~{SDCAS}/~{SSADS} (hiz), W2 AD10 (io), W3 AD11 (io), W4 AD7 (io), W5 PCLK (in), W6 AD1 (io), W7 EA20 (hiz), W8 EA17 (hiz), W9 EA16 (hiz), W10 EA13 (hiz), W11 EA10 (hiz), W12 EA6 (hiz), W13 EA3 (hiz), W14 ~{AOE} (hiz), W15 ARDY (in), W16 ~{BE}0 (hiz), W17 ~{BE}2 (hiz), W18 ~{CE}1 (hiz)
part B pins: A11 VSS (power), A13 VSS (power), B8 DVDD (power), B11 VSS (power), B12 CVDD (power), B13 VSS (power), C10 VSS (power), C12 VSS (power), C13 VSS (power), E7 DVDD (power), E8 DVDD (power), E9 DVDD (power), E11 DVDD (power), E12 VSS (power), E13 DVDD (power), E14 CVDD (power), F6 VDDP (power), F9 CVDD (power), F10 CVDD (power), G1 VIOP (power), G5 CVDD (power), G7 VSS (power), G8 VSS (power), G9 VSS (power), G10 VSS (power), G11 VSS (power), G12 VSS (power), G13 VSS (power), H7 VSS (power), H8 VSS (power), H9 VSS (power), H10 VSS (power), H11 VSS (power), H12 VSS (power), H13 VSS (power), H14 DVDD (power), H15 CVDD (power), J2 CVDD (power), J5 CVDD (power), J6 VDDP (power), J7 VSS (power), J8 VSS (power), J9 VSS (power), J10 VSS (power), J11 VSS (power), J12 VSS (power), J13 VSS (power), J15 CVDD (power), K1 VSS (power), K7 VSS (power), K8 VSS (power), K9 VSS (power), K10 VSS (power), K11 VSS (power), K12 VSS (power), K13 VSS (power), K14 DVDD (power), L6 VDDP (power), L7 VSS (power), L8 VSS (power), L9 VSS (power), L10 VSS (power), L11 VSS (power), L12 VSS (power), L13 VSS (power), L15 DVDD (power), M5 CVDD (power), M7 VSS (power), M8 VSS (power), M9 VSS (power), M10 VSS (power), M11 VSS (power), M12 VSS (power), M13 VSS (power), M14 DVDD (power), M15 CVDD (power), N7 VSS (power), N8 VSS (power), N9 VSS (power), N10 VSS (power), N11 VSS (power), N12 VSS (power), N13 VSS (power), N17 CVDD (power), P3 VIOP (power), P6 CVDD (power), P9 CVDD (power), P12 CVDD (power), P15 DVDD (power), R3 VDDP (power), R6 VDDP (power), R7 VDDP (power), R8 DVDD (power), R9 DVDD (power), R10 DVDD (power), R13 DVDD (power), R14 DVDD (power), U3 VIOP (power), U13 CVDD (power), U15 DVDD (power), V12 VSS (power)

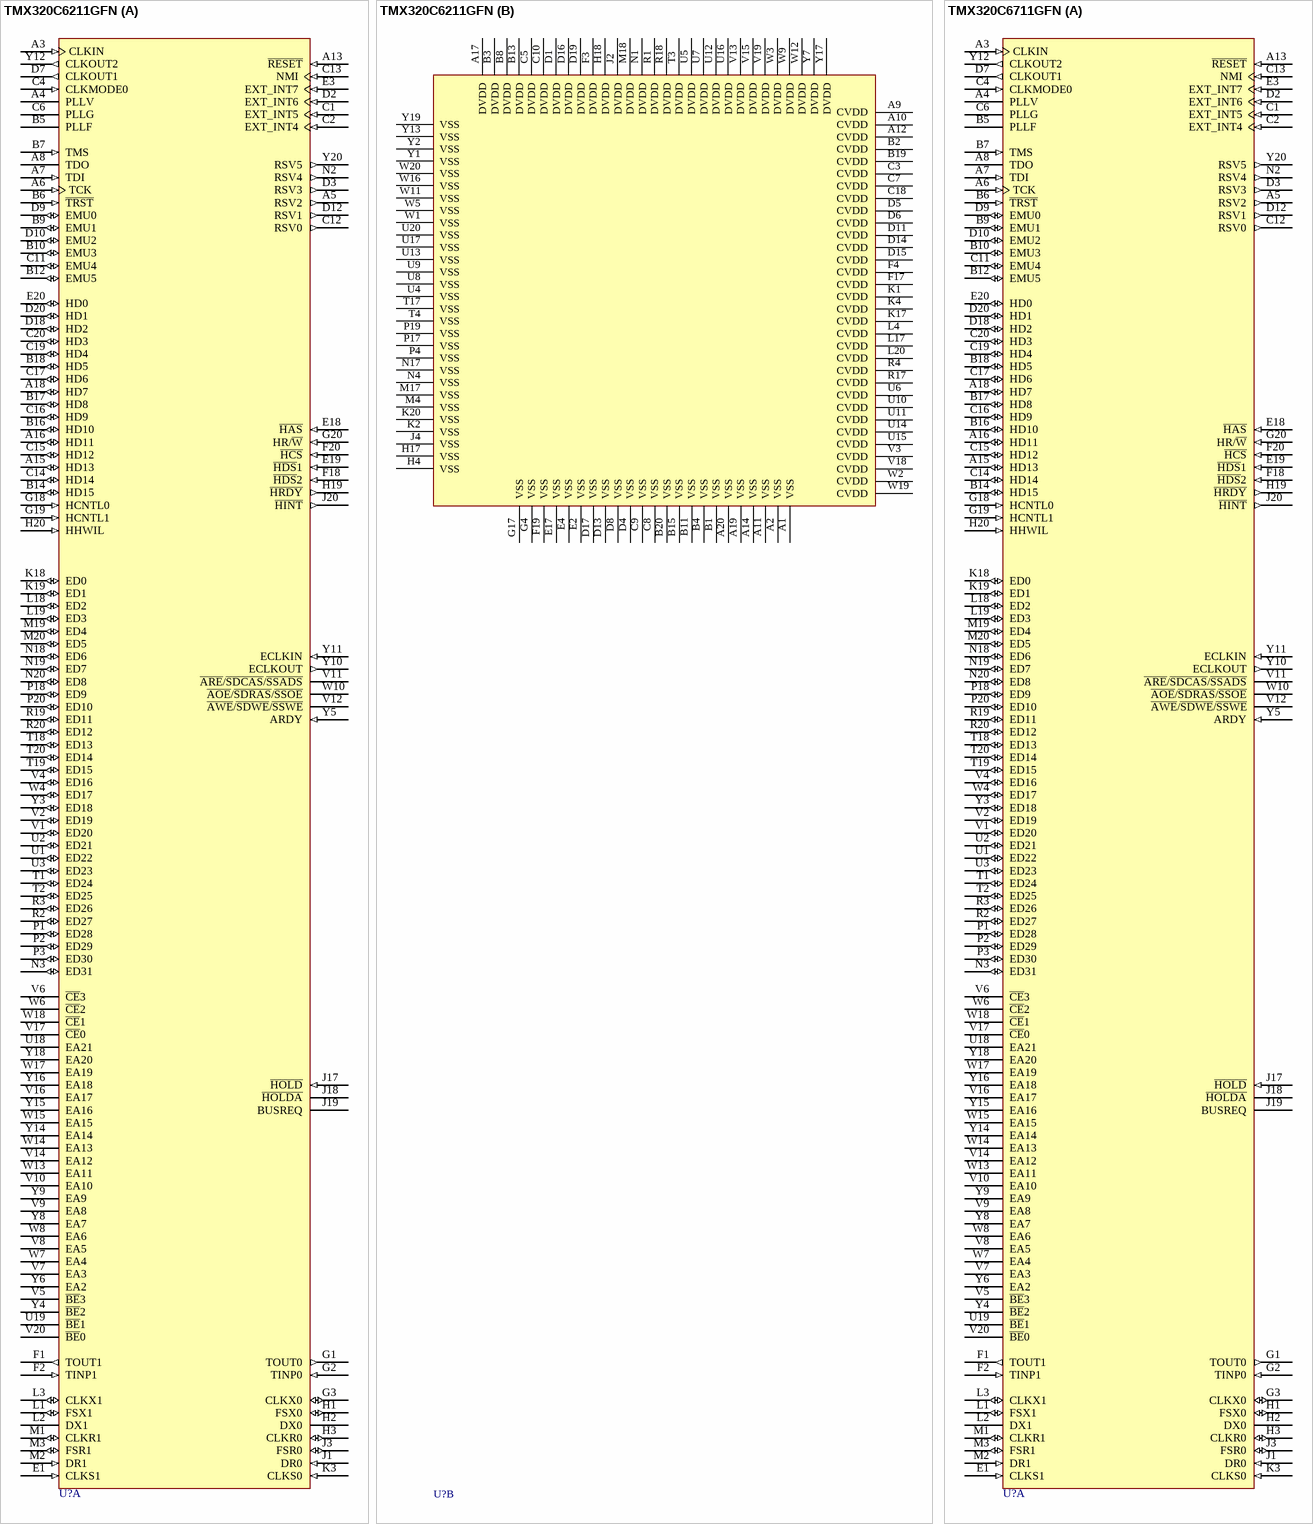
[diagram p129: symbols TMX320C6211GFN to TMX320C6711GFN]

## TMX320C6211GFN
designator U?
Fixed-Point, 1.8/3.3V, 1336 MIPS, Multichannel/Multifunction DSP; Note: PLLV and PLLG are not part of external voltage supply or ground.; Published: 25-Jan-2001; LatestRevisionDate: 13-Apr-2006; LatestRevisionNote: IPC-7351 Footprint Added.; DatasheetVersion: Jun-2000; PackageVersion: Dec-1998; PackageReference: GFN256; Publisher: Altium Limited; PackageDescription: 256-Ball Ball Grid Array 1.27 mm Pitch; ComponentLink1Description: Manufacturer Link; ComponentLink1URL: http://www.ti.com/; ComponentLink2Description: Datasheet; ComponentLink2URL: http://www-s.ti.com/sc/ds/tms320c6711.pdf
footprint GFN256 (BGA, 256-Leads, Body 27x27mm, Pitch 1.27mm)
3D model TMX320C6211-GFN256 (256-Ball Ball Grid Array 1.27 mm Pitch)
part A pins: A3 CLKIN (in), A4 PLLV (power), A5 RSV2 (out), A6 TCK (in), A7 TDI (in), A8 TDO (hiz), A13 ~{RESET} (in), A15 HD13 (io), A16 HD11 (io), A18 HD7 (io), B5 PLLF, B6 ~{TRST} (in), B7 TMS (in), B9 EMU1 (io), B10 EMU3 (io), B12 EMU5 (io), B14 HD15 (io), B16 HD10 (io), B17 HD8 (io), B18 HD5 (io), C1 EXT_INT5 (in), C2 EXT_INT4 (in), C4 CLKMODE0 (in), C6 PLLG (power), C11 EMU4 (io), C12 RSV0 (out), C13 NMI (in), C14 HD14 (io), C15 HD12 (io), C16 HD9 (io), C17 HD6 (io), C19 HD4 (io), C20 HD3 (io), D2 EXT_INT6 (in), D3 RSV3 (out), D7 CLKOUT1 (out), D9 EMU0 (io), D10 EMU2 (io), D12 RSV1 (out), D18 HD2 (io), D20 HD1 (io), E1 CLKS1 (in), E3 EXT_INT7 (in), E18 ~{HAS} (in), E19 ~{HDS}1 (in), E20 HD0 (io), F1 TOUT1 (out), F2 TINP1 (in), F18 ~{HDS}2 (in), F20 ~{HCS} (in), G1 TOUT0 (out), G2 TINP0 (in), G3 CLKX0 (io), G18 HCNTL0 (in), G19 HCNTL1 (in), G20 HR/~{W} (in), H1 FSX0 (io), H2 DX0 (hiz), H3 CLKR0 (io), H19 ~{HRDY} (out), H20 HHWIL (in), J1 DR0 (in), J3 FSR0 (io), J17 ~{HOLD} (in), J18 ~{HOLDA} (hiz), J19 BUSREQ (hiz), J20 ~{HINT} (out), K3 CLKS0 (in), K18 ED0 (io), K19 ED1 (io), L1 FSX1 (io), L2 DX1 (hiz), L3 CLKX1 (io), L18 ED2 (io), L19 ED3 (io), M1 CLKR1 (io), M2 DR1 (in), M3 FSR1 (io), M19 ED4 (io), M20 ED5 (io), N2 RSV4 (out), N3 ED31 (io), N18 ED6 (io), N19 ED7 (io), N20 ED8 (io), P1 ED28 (io), P2 ED29 (io), P3 ED30 (io), P18 ED9 (io), P20 ED10 (io), R2 ED27 (io), R3 ED26 (io), R19 ED11 (io), R20 ED12 (io), T1 ED24 (io), T2 ED25 (io), T18 ED13 (io), T19 ED15 (io), T20 ED14 (io), U1 ED22 (io), U2 ED21 (io), U3 ED23 (io), U18 EA21 (hiz), U19 ~{BE}1 (hiz), V1 ED20 (io), V2 ED19 (io), V4 ED16 (io), V5 ~{BE}3 (hiz), V6 ~{CE}3 (hiz), V7 EA3 (hiz), V8 EA5 (hiz), V9 EA8 (hiz), V10 EA10 (hiz), V11 ~{ARE}/~{SDCAS}/~{SSADS} (hiz), V12 ~{AWE}/~{SDWE}/~{SSWE} (hiz), V14 EA12 (hiz), V16 EA17 (hiz), V17 ~{CE}0 (hiz), V20 ~{BE}0 (hiz), W4 ED17 (io), W6 ~{CE}2 (hiz), W7 EA4 (hiz), W8 EA6 (hiz), W10 ~{AOE}/~{SDRAS}/~{SSOE} (hiz), W13 EA11 (hiz), W14 EA13 (hiz), W15 EA15 (hiz), W17 EA19 (hiz), W18 ~{CE}1 (hiz), Y3 ED18 (io), Y4 ~{BE}2 (hiz), Y5 ARDY (in), Y6 EA2 (hiz), Y8 EA7 (hiz), Y9 EA9 (hiz), Y10 ECLKOUT (out), Y11 ECLKIN (in), Y12 CLKOUT2 (out), Y14 EA14 (hiz), Y15 EA16 (hiz), Y16 EA18 (hiz), Y18 EA20 (hiz), Y20 RSV5 (out)
part B pins: A1 VSS (power), A2 VSS (power), A9 CVDD (power), A10 CVDD (power), A11 VSS (power), A12 CVDD (power), A14 VSS (power), A17 DVDD (power), A19 VSS (power), A20 VSS (power), B1 VSS (power), B2 CVDD (power), B3 DVDD (power), B4 VSS (power), B8 DVDD (power), B11 VSS (power), B13 DVDD (power), B15 VSS (power), B19 CVDD (power), B20 VSS (power), C3 CVDD (power), C5 DVDD (power), C7 CVDD (power), C8 VSS (power), C9 VSS (power), C10 DVDD (power), C18 CVDD (power), D1 DVDD (power), D4 VSS (power), D5 CVDD (power), D6 CVDD (power), D8 VSS (power), D11 CVDD (power), D13 VSS (power), D14 CVDD (power), D15 CVDD (power), D16 DVDD (power), D17 VSS (power), D19 DVDD (power), E2 VSS (power), E4 VSS (power), E17 VSS (power), F3 DVDD (power), F4 CVDD (power), F17 CVDD (power), F19 VSS (power), G4 VSS (power), G17 VSS (power), H4 VSS (power), H17 VSS (power), H18 DVDD (power), J2 DVDD (power), J4 VSS (power), K1 CVDD (power), K2 VSS (power), K4 CVDD (power), K17 CVDD (power), K20 VSS (power), L4 CVDD (power), L17 CVDD (power), L20 CVDD (power), M4 VSS (power), M17 VSS (power), M18 DVDD (power), N1 DVDD (power), N4 VSS (power), N17 VSS (power), P4 VSS (power), P17 VSS (power), P19 VSS (power), R1 DVDD (power), R4 CVDD (power), R17 CVDD (power), R18 DVDD (power), T3 DVDD (power), T4 VSS (power), T17 VSS (power), U4 VSS (power), U5 DVDD (power), U6 CVDD (power), U7 DVDD (power), U8 VSS (power), U9 VSS (power), U10 CVDD (power), U11 CVDD (power), U12 DVDD (power), U13 VSS (power), U14 CVDD (power), U15 CVDD (power), U16 DVDD (power), U17 VSS (power), U20 VSS (power), V3 CVDD (power), V13 DVDD (power), V15 DVDD (power), V18 CVDD (power), V19 DVDD (power), W1 VSS (power), W2 CVDD (power), W3 DVDD (power), W5 VSS (power), W9 DVDD (power), W11 VSS (power), W12 DVDD (power), W16 VSS (power), W19 CVDD (power), W20 VSS (power), Y1 VSS (power), Y2 VSS (power), Y7 DVDD (power), Y13 VSS (power), Y17 DVDD (power), Y19 VSS (power)

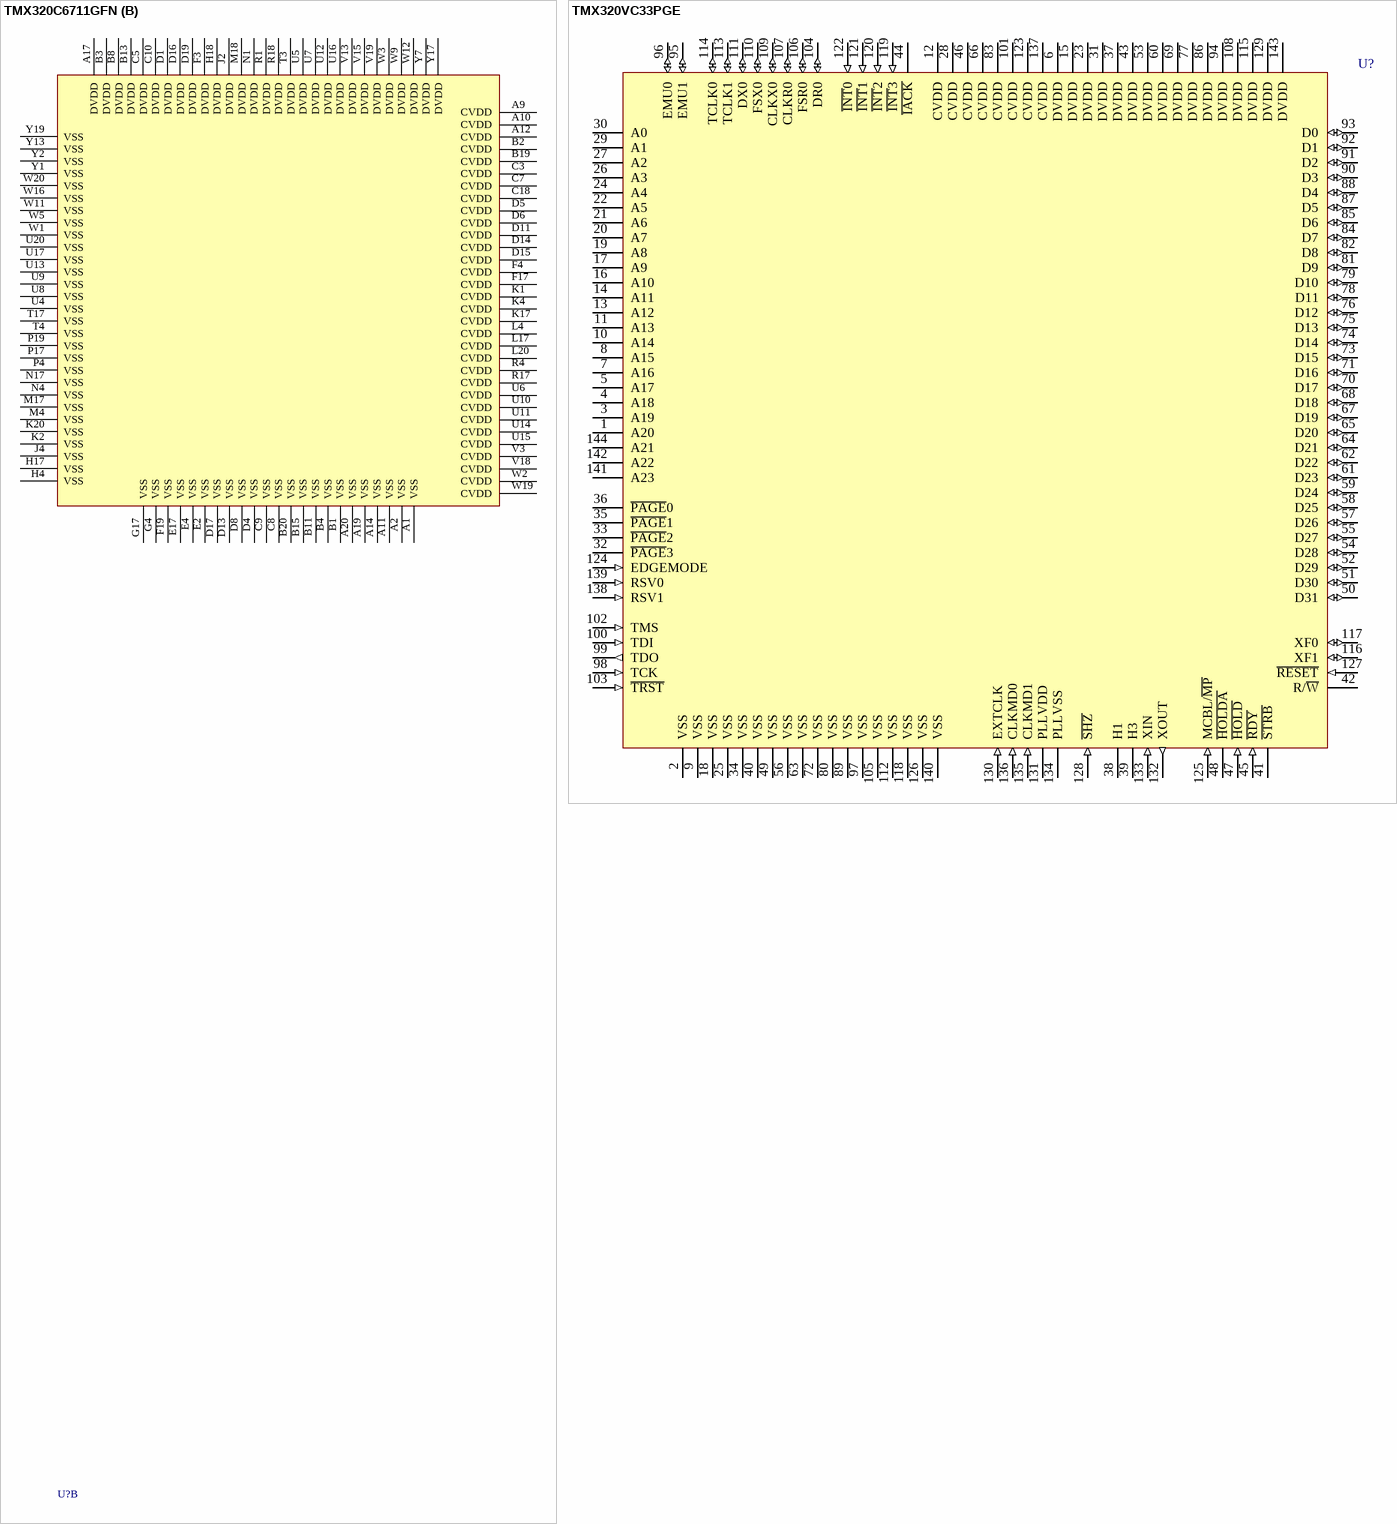
[diagram p130: symbols TMX320C6711GFN to TMX320VC33PGE]

## TMX320C6711GFN
designator U?
Floating-Point DSP; Note: PLLV and PLLG are not part of external voltage supply or ground.; Published: 25-Jan-2001; LatestRevisionDate: 13-Apr-2006; LatestRevisionNote: IPC-7351 Footprint Added.; DatasheetVersion: Jun-2000; PackageVersion: Dec-1998; PackageReference: GFN256; Publisher: Altium Limited; PackageDescription: 256-Ball Ball Grid Array 1.27 mm Pitch; ComponentLink1Description: Manufacturer Link; ComponentLink1URL: http://www.ti.com/; ComponentLink2Description: Datasheet; ComponentLink2URL: http://www-s.ti.com/sc/ds/tms320c6711.pdf
footprint GFN256 (BGA, 256-Leads, Body 27x27mm, Pitch 1.27mm)
3D model TMX320C6711-GFN256 (256-Ball Ball Grid Array 1.27 mm Pitch)
part A pins: A3 CLKIN (in), A4 PLLV (power), A5 RSV2 (out), A6 TCK (in), A7 TDI (in), A8 TDO (hiz), A13 ~{RESET} (in), A15 HD13 (io), A16 HD11 (io), A18 HD7 (io), B5 PLLF, B6 ~{TRST} (in), B7 TMS (in), B9 EMU1 (io), B10 EMU3 (io), B12 EMU5 (io), B14 HD15 (io), B16 HD10 (io), B17 HD8 (io), B18 HD5 (io), C1 EXT_INT5 (in), C2 EXT_INT4 (in), C4 CLKMODE0 (in), C6 PLLG (power), C11 EMU4 (io), C12 RSV0 (out), C13 NMI (in), C14 HD14 (io), C15 HD12 (io), C16 HD9 (io), C17 HD6 (io), C19 HD4 (io), C20 HD3 (io), D2 EXT_INT6 (in), D3 RSV3 (out), D7 CLKOUT1 (out), D9 EMU0 (io), D10 EMU2 (io), D12 RSV1 (out), D18 HD2 (io), D20 HD1 (io), E1 CLKS1 (in), E3 EXT_INT7 (in), E18 ~{HAS} (in), E19 ~{HDS}1 (in), E20 HD0 (io), F1 TOUT1 (out), F2 TINP1 (in), F18 ~{HDS}2 (in), F20 ~{HCS} (in), G1 TOUT0 (out), G2 TINP0 (in), G3 CLKX0 (io), G18 HCNTL0 (in), G19 HCNTL1 (in), G20 HR/~{W} (in), H1 FSX0 (io), H2 DX0 (hiz), H3 CLKR0 (io), H19 ~{HRDY} (out), H20 HHWIL (in), J1 DR0 (in), J3 FSR0 (io), J17 ~{HOLD} (in), J18 ~{HOLDA} (hiz), J19 BUSREQ (hiz), J20 ~{HINT} (out), K3 CLKS0 (in), K18 ED0 (io), K19 ED1 (io), L1 FSX1 (io), L2 DX1 (hiz), L3 CLKX1 (io), L18 ED2 (io), L19 ED3 (io), M1 CLKR1 (io), M2 DR1 (in), M3 FSR1 (io), M19 ED4 (io), M20 ED5 (io), N2 RSV4 (out), N3 ED31 (io), N18 ED6 (io), N19 ED7 (io), N20 ED8 (io), P1 ED28 (io), P2 ED29 (io), P3 ED30 (io), P18 ED9 (io), P20 ED10 (io), R2 ED27 (io), R3 ED26 (io), R19 ED11 (io), R20 ED12 (io), T1 ED24 (io), T2 ED25 (io), T18 ED13 (io), T19 ED15 (io), T20 ED14 (io), U1 ED22 (io), U2 ED21 (io), U3 ED23 (io), U18 EA21 (hiz), U19 ~{BE}1 (hiz), V1 ED20 (io), V2 ED19 (io), V4 ED16 (io), V5 ~{BE}3 (hiz), V6 ~{CE}3 (hiz), V7 EA3 (hiz), V8 EA5 (hiz), V9 EA8 (hiz), V10 EA10 (hiz), V11 ~{ARE}/~{SDCAS}/~{SSADS} (hiz), V12 ~{AWE}/~{SDWE}/~{SSWE} (hiz), V14 EA12 (hiz), V16 EA17 (hiz), V17 ~{CE}0 (hiz), V20 ~{BE}0 (hiz), W4 ED17 (io), W6 ~{CE}2 (hiz), W7 EA4 (hiz), W8 EA6 (hiz), W10 ~{AOE}/~{SDRAS}/~{SSOE} (hiz), W13 EA11 (hiz), W14 EA13 (hiz), W15 EA15 (hiz), W17 EA19 (hiz), W18 ~{CE}1 (hiz), Y3 ED18 (io), Y4 ~{BE}2 (hiz), Y5 ARDY (in), Y6 EA2 (hiz), Y8 EA7 (hiz), Y9 EA9 (hiz), Y10 ECLKOUT (out), Y11 ECLKIN (in), Y12 CLKOUT2 (out), Y14 EA14 (hiz), Y15 EA16 (hiz), Y16 EA18 (hiz), Y18 EA20 (hiz), Y20 RSV5 (out)
part B pins: A1 VSS (power), A2 VSS (power), A9 CVDD (power), A10 CVDD (power), A11 VSS (power), A12 CVDD (power), A14 VSS (power), A17 DVDD (power), A19 VSS (power), A20 VSS (power), B1 VSS (power), B2 CVDD (power), B3 DVDD (power), B4 VSS (power), B8 DVDD (power), B11 VSS (power), B13 DVDD (power), B15 VSS (power), B19 CVDD (power), B20 VSS (power), C3 CVDD (power), C5 DVDD (power), C7 CVDD (power), C8 VSS (power), C9 VSS (power), C10 DVDD (power), C18 CVDD (power), D1 DVDD (power), D4 VSS (power), D5 CVDD (power), D6 CVDD (power), D8 VSS (power), D11 CVDD (power), D13 VSS (power), D14 CVDD (power), D15 CVDD (power), D16 DVDD (power), D17 VSS (power), D19 DVDD (power), E2 VSS (power), E4 VSS (power), E17 VSS (power), F3 DVDD (power), F4 CVDD (power), F17 CVDD (power), F19 VSS (power), G4 VSS (power), G17 VSS (power), H4 VSS (power), H17 VSS (power), H18 DVDD (power), J2 DVDD (power), J4 VSS (power), K1 CVDD (power), K2 VSS (power), K4 CVDD (power), K17 CVDD (power), K20 VSS (power), L4 CVDD (power), L17 CVDD (power), L20 CVDD (power), M4 VSS (power), M17 VSS (power), M18 DVDD (power), N1 DVDD (power), N4 VSS (power), N17 VSS (power), P4 VSS (power), P17 VSS (power), P19 VSS (power), R1 DVDD (power), R4 CVDD (power), R17 CVDD (power), R18 DVDD (power), T3 DVDD (power), T4 VSS (power), T17 VSS (power), U4 VSS (power), U5 DVDD (power), U6 CVDD (power), U7 DVDD (power), U8 VSS (power), U9 VSS (power), U10 CVDD (power), U11 CVDD (power), U12 DVDD (power), U13 VSS (power), U14 CVDD (power), U15 CVDD (power), U16 DVDD (power), U17 VSS (power), U20 VSS (power), V3 CVDD (power), V13 DVDD (power), V15 DVDD (power), V18 CVDD (power), V19 DVDD (power), W1 VSS (power), W2 CVDD (power), W3 DVDD (power), W5 VSS (power), W9 DVDD (power), W11 VSS (power), W12 DVDD (power), W16 VSS (power), W19 CVDD (power), W20 VSS (power), Y1 VSS (power), Y2 VSS (power), Y7 DVDD (power), Y13 VSS (power), Y17 DVDD (power), Y19 VSS (power)

## TMX320VC33PGE
designator U?
Floating DSP; Note: PLLVDD and PLLVSS are isolated PLL supply pins that should not be externally connected to CVDD and VSS, respectively..; Published: 25-Jan-2001; LatestRevisionDate: 13-Apr-2006; LatestRevisionNote: IPC-7351 Footprint Added.; DatasheetVersion: Jul-2000; PackageVersion: Dec-1996; PackageReference: PGE144; Publisher: Altium Limited; PackageDescription: 144-Pin Thin Quad Flat Pack 0.5 mm Pitch; ComponentLink1Description: Manufacturer Link; ComponentLink1URL: http://www.ti.com/; ComponentLink2Description: Datasheet; ComponentLink2URL: http://www-s.ti.com/sc/ds/tms320vc33.pdf
footprint PGE144_N (Thin QFP, 144-Leads, Body 20x20mm, Pitch 0.5mm, IPC Medium Density)
footprint PGE144_L (Thin QFP, 144-Leads, Body 20x20mm, Pitch 0.5mm, IPC High Density)
footprint PGE144_M (Thin QFP, 144-Leads, Body 20x20mm, Pitch 0.5mm, IPC Low Density)
3D model TMX320VC33-PGE144 (144-Pin Thin Quad Flat Pack 0.5 mm Pitch)
pins: 1 A20 (hiz), 2 VSS (power), 3 A19 (hiz), 4 A18 (hiz), 5 A17 (hiz), 6 DVDD (power), 7 A16 (hiz), 8 A15 (hiz), 9 VSS (power), 10 A14 (hiz), 11 A13 (hiz), 12 CVDD (power), 13 A12 (hiz), 14 A11 (hiz), 15 DVDD (power), 16 A10 (hiz), 17 A9 (hiz), 18 VSS (power), 19 A8 (hiz), 20 A7 (hiz), 21 A6 (hiz), 22 A5 (hiz), 23 DVDD (power), 24 A4 (hiz), 25 VSS (power), 26 A3 (hiz), 27 A2 (hiz), 28 CVDD (power), 29 A1 (hiz), 30 A0 (hiz), 31 DVDD (power), 32 ~{PAGE}3 (hiz), 33 ~{PAGE}2 (hiz), 34 VSS (power), 35 ~{PAGE}1 (hiz), 36 ~{PAGE}0 (hiz), 37 DVDD (power), 38 H1 (hiz), 39 H3 (hiz), 40 VSS (power), 41 ~{STRB} (hiz), 42 R/~{W} (hiz), 43 DVDD (power), 44 ~{IACK} (hiz), 45 ~{RDY} (in), 46 CVDD (power), 47 ~{HOLD} (in), 48 ~{HOLDA} (hiz), 49 VSS (power), 50 D31 (io), 51 D30 (io), 52 D29 (io), 53 DVDD (power), 54 D28 (io), 55 D27 (io), 56 VSS (power), 57 D26 (io), 58 D25 (io), 59 D24 (io), 60 DVDD (power), 61 D23 (io), 62 D22 (io), 63 VSS (power), 64 D21 (io), 65 D20 (io), 66 CVDD (power), 67 D19 (io), 68 D18 (io), 69 DVDD (power), 70 D17 (io), 71 D16 (io), 72 VSS (power), 73 D15 (io), 74 D14 (io), 75 D13 (io), 76 D12 (io), 77 DVDD (power), 78 D11 (io), 79 D10 (io), 80 VSS (power), 81 D9 (io), 82 D8 (io), 83 CVDD (power), 84 D7 (io), 85 D6 (io), 86 DVDD (power), 87 D5 (io), 88 D4 (io), 89 VSS (power), 90 D3 (io), 91 D2 (io), 92 D1 (io), 93 D0 (io), 94 DVDD (power), 95 EMU1 (io), 96 EMU0 (io), 97 VSS (power), 98 TCK (in), 99 TDO (out), 100 TDI (in), 101 CVDD (power), 102 TMS (in), 103 ~{TRST} (in), 104 DR0 (io), 105 VSS (power), 106 FSR0 (io), 107 CLKR0 (io), 108 DVDD (power), 109 CLKX0 (io), 110 FSX0 (io), 111 DX0 (io), 112 VSS (power), 113 TCLK1 (io), 114 TCLK0 (io), 115 DVDD (power), 116 XF1 (io), 117 XF0 (io), 118 VSS (power), 119 ~{INT}3 (in), 120 ~{INT}2 (in), 121 ~{INT}1 (in), 122 ~{INT}0 (in), 123 CVDD (power), 124 EDGEMODE (in), 125 MCBL/~{MP} (in), 126 VSS (power), 127 ~{RESET} (in), 128 ~{SHZ} (in), 129 DVDD (power), 130 EXTCLK (in), 131 PLLVDD (power), 132 XOUT (out), 133 XIN (in), 134 PLLVSS (power), 135 CLKMD1 (in), 136 CLKMD0 (in), 137 CVDD (power), 138 RSV1 (in), 139 RSV0 (in), 140 VSS (power), 141 A23 (hiz), 142 A22 (hiz), 143 DVDD (power), 144 A21 (hiz)